# Altium footprint library SMH10502TDTR.PcbLib: 1 footprints
Each footprint in its own frame and in the unit in brackets; x right, y up, seen from the top. Pads: shape width x height; smd on the part's side, far side on the other; paste and mask are expansions set on the pad; w line width, h text height; cw(c..) or ccw(c..) is an arc to the next point about the centre after c.
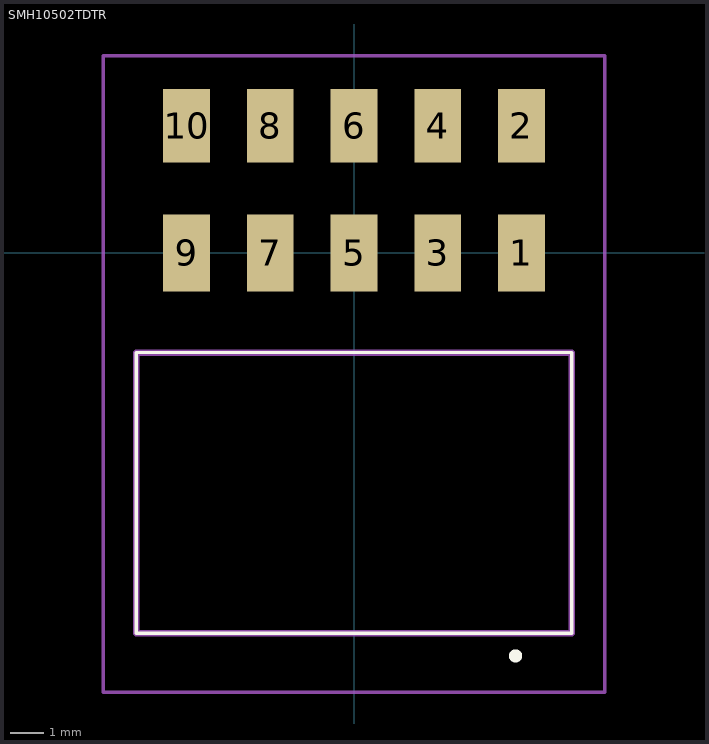
[diagram p0: the footprint, top view; thin cyan lines are the x and y axes]

## SMH10502TDTR [mm]
pads (10):
  rect 1.42x2.34 smd: 1(5.08,0) 3(2.54,0) 5(0,0) 7(-2.54,0) 9(-5.08,0)
  rect 1.42x2.24 smd: 2(5.08,3.86) 4(2.54,3.86) 6(0,3.86) 8(-2.54,3.86) 10(-5.08,3.86)
Top Overlay:
  lines w0.1: -6.605,-11.53 6.605,-11.53 6.605,-3.02 -6.605,-3.02 -6.605,-11.53
  lines w0.2: 4.8,-12.22 4.8,-12.22 ; 4.8,-12.22 ccw(c4.9,-12.22) 5,-12.22 ; 4.8,-12.22 cw(c4.9,-12.22) 5,-12.22 ; 5,-12.22 5,-12.22
Mechanical 15:
  lines w0.2: -6.605,-11.53 6.605,-11.53 6.605,-3.02 -6.605,-3.02 -6.605,-11.53
Mechanical 20:
  lines w0.1: -7.605,-13.32 7.605,-13.32 7.605,5.98 -7.605,5.98 -7.605,-13.32